# Altium schematic symbol library P10_ATMEGA328P.SchLib: 14 symbols
Pins are listed as number, name and electrical type; pins without a type are passive.

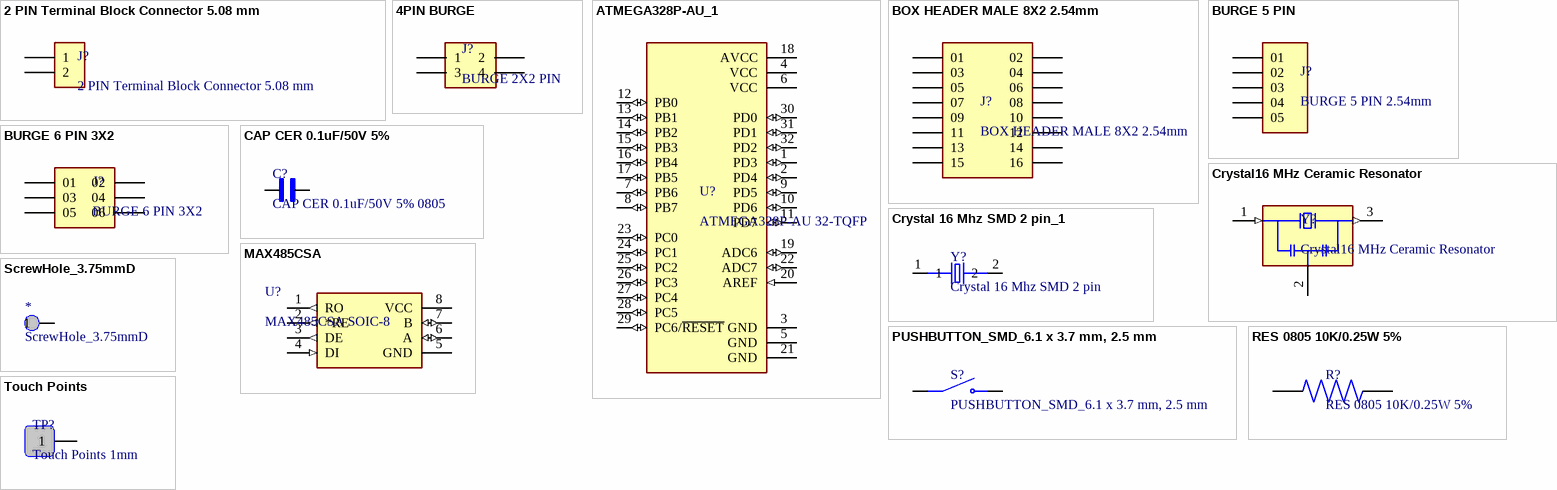
[diagram p0: symbols 2 PIN Terminal Block Connector 5.08 mm to Touch Points]

## 2 PIN Terminal Block Connector 5.08 mm
designator J?
MOLEX,Screw Type, Horizontal, 5.08 Pitch, 24~12 (AWG), Terminal Block Connector, TB007-508-02BE; MF: Same Sky; SnapEDA_Link: https://www.snapeda.com/parts/TB007-508-02BE/Same+Sky/view-part/?ref=snap; Package: None; Value: *; MP: TB007-508-02BE; Check_prices: https://www.snapeda.com/parts/TB007-508-02BE/Same+Sky/view-part/?ref=eda
footprint 2 PIN Terminal Block Connector 5.08 mm
pins: 1, 2

## 4PIN BURGE
designator J?, comment BURGE 2X2 PIN
Connector Header Through Hole 4 position 0.100 (2.54mm), 2X2 PIN; MF: Samtec; MP: MTLW-102-05-G-D-180; SnapEDA_Link: https://www.snapeda.com/parts/MTLW-102-05-G-D-180/Samtec/view-part/?ref=snap; Package: None; Value: *; Check_prices: https://www.snapeda.com/parts/MTLW-102-05-G-D-180/Samtec/view-part/?ref=eda
footprint BURGE 2X2 pin (Connector Header Through Hole 4 position 0.100 (2.54mm), 4X2 PIN)
pins: 01 1, 02 2, 03 3, 04 4

## ATMEGA328P-AU_1
designator U?, comment ATMEGA328P-AU 32-TQFP
AVR AVRÂ® ATmega Microcontroller IC 8-Bit 20MHz 32KB (16K x 16) FLASH 32-TQFP (7x7); MF: Microchip; SnapEDA_Link: https://www.snapeda.com/parts/ATMEGA328P-AU/Microchip/view-part/?ref=snap; Package: TQFP-32 Microchip; Value: *; MP: ATMEGA328P-AU; Check_prices: https://www.snapeda.com/parts/ATMEGA328P-AU/Microchip/view-part/?ref=eda
footprint ATMEGA328P-AU 32-TQFP (AVR AVRÂ® ATmega Microcontroller IC 8-Bit 20MHz 32KB (16K x 16) FLASH 32-TQFP (7x7)QFP80P900X900X120-32N)
pins: 1 PD3 (io), 2 PD4 (io), 3 GND (power), 4 VCC (power), 5 GND (power), 6 VCC (power), 7 PB6 (io), 8 PB7 (io), 9 PD5 (io), 10 PD6 (io), 11 PD7 (io), 12 PB0 (io), 13 PB1 (io), 14 PB2 (io), 15 PB3 (io), 16 PB4 (io), 17 PB5 (io), 18 AVCC (power), 19 ADC6 (io), 20 AREF (in), 21 GND (power), 22 ADC7 (io), 23 PC0 (io), 24 PC1 (io), 25 PC2 (io), 26 PC3 (io), 27 PC4 (io), 28 PC5 (io), 29 PC6/~{RESET} (io), 30 PD0 (io), 31 PD1 (io), 32 PD2 (io)

## BOX HEADER MALE 8X2 2.54mm
designator J?
BOX HEADER MALE 8X2 2.54mm 16 pin; MP: TSS-108-01-T-D; Availability: Unavailable; Value: *; Price: None; Package: None
footprint BOX HEADER MALE 8X2 2.54mm (BOX HEADER MALE 8X2 2.54mm 16 pin)
pins: 01, 02, 03, 04, 05, 06, 07, 08, 09, 10, 11, 12, 13, 14, 15, 16

## BURGE 5 PIN
designator J?, comment BURGE 5 PIN 2.54mm
MTSW-105-07-T-S-048 BURGE 5 PIN 2.54mm; MP: MTSW-105-07-T-S-048; Price: None; Package: None; Value: *; Availability: Unavailable
footprint BURGE 5 PIN (MTSW-105-07-T-S-048 BURGE 5 PIN 2.54mm)
pins: 01, 02, 03, 04, 05

## BURGE 6 PIN 3X2
designator J?
MTSW-103-X-X-D-X BURGE 6 PIN 3X2 2.54MM; MF: {'manufacturer': u'Samtec Inc.'}; Package: None; Price: None; Value: *; MP: MTSW-103-X-X-D-X; Availability: Unavailable
footprint BURGE 6 PIN 3X2 (MTSW-103-X-X-D-X BURGE 6 PIN 3X2 2.54MM)
pins: 01, 02, 03, 04, 05, 06

## CAP CER 0.1uF/50V 5%
designator C?, comment CAP CER 0.1uF/50V 5% 0805
CAP CER 0.1uF/50V  Ceramic Capacitor X7R 0805 (2012 Metric); MF: Samsung; MP: CL21B104KCFNNNE; Purchase-URL: https://pricing.snapeda.com/search?q=CL21B104KCFNNNE&ref=eda; Package: 0805 Samsung; Check_prices: https://www.snapeda.com/parts/CL21B104KCFNNNE/Samsung+Electro-Mechanics/view-part/?ref=eda; Value: *; SnapEDA_Link: https://www.snapeda.com/parts/CL21B104KCFNNNE/Samsung+Electro-Mechanics/view-part/?ref=snap; Digi-Key_Part_Number: 1276-6840-2-ND
footprint CAP CER 0.1uF/50V 5%
pins: 1, 2

## Crystal16 MHz Ceramic Resonator
designator Y?
16 MHz Ceramic Resonator Built in Capacitor 15 pF Â±0.3% -20Â°C ~ 80Â°C Surface Mount-CSTCE16M0V53-R0; MF: Murata; MP: CSTCE16M0V53-R0-; SnapEDA_Link: https://www.snapeda.com/parts/CSTCE16M0V53-R0-/Murata/view-part/?ref=snap; Package: None; Value: *; Check_prices: https://www.snapeda.com/parts/CSTCE16M0V53-R0-/Murata/view-part/?ref=eda
footprint Crystal16 MHz Ceramic Resonator (16 MHz Ceramic Resonator Built in Capacitor 15 pF Â±0.3% -20Â°C ~ 80Â°C Surface Mount-CSTCE16M0V53-R0)
pins: 1 IN (in), 2 GND (power), 3 OUT (out)

## Crystal 16 Mhz SMD 2 pin_1
designator Y?, comment Crystal 16 Mhz SMD 2 pin
16 MHz Â±30ppm Crystal 20pF 60 Ohms HC-49/US FOXSDLF/128-20 16 Mhz Crystal SMD –CSM-4ALX(28ALX) 12.5mmX4.85mmX4mm; MF: Fox Electronics; SnapEDA_Link: https://www.snapeda.com/parts/FOXSDLF/128-20/Fox+Electronics/view-part/?ref=snap; Package: HC49SD Fox Electronics; Value: *; MP: FOXSDLF/128-20; Check_prices: https://www.snapeda.com/parts/FOXSDLF/128-20/Fox+Electronics/view-part/?ref=eda
footprint Crystal 16 Mhz SMD 2 pin (16 MHz Â±30ppm Crystal 20pF 60 Ohms HC-49/US FOXSDLF/128-20 16 Mhz Crystal SMD –CSM-4ALX(28ALX) 12.5mmX4.85mmX4mm)
pins: 1, 2

## MAX485CSA
designator U?, comment MAX485CSA SOIC-8
MAX485CSA-RS-485/RS-422 Transceivers, SOIC-8; MF: Analog Devices; MP: MAX485CSA+; SnapEDA_Link: https://www.snapeda.com/parts/MAX485CSA+/Analog+Devices/view-part/?ref=snap; Package: SOIC-8 Maxim; Value: *; Check_prices: https://www.snapeda.com/parts/MAX485CSA+/Analog+Devices/view-part/?ref=eda
footprint MAX485CSA (MAX485CSA-RS-485/RS-422 Transceivers, SOIC-8)
pins: 1 RO (out), 2 *RE (out), 3 DE (out), 4 DI (in), 5 GND (power), 6 A (io), 7 B (io), 8 VCC (power)

## PUSHBUTTON_SMD_6.1 x 3.7 mm, 2.5 mm
designator S?
6.1 x 3.7 mm, 2.5 mm Actuator Height, 260 gf, Red, Surface Mount, SPST, Tactile Switch, TS09-63-25-R-260-SMT-TR; MF: Same Sky; SnapEDA_Link: https://www.snapeda.com/parts/TS09-63-25-R-260-SMT-TR/Same+Sky/view-part/?ref=snap; Package: None; Value: *; MP: TS09-63-25-R-260-SMT-TR; Check_prices: https://www.snapeda.com/parts/TS09-63-25-R-260-SMT-TR/Same+Sky/view-part/?ref=eda
footprint PUSHBUTTON_SMD_6.1 x 3.7 mm, 2.5 mm (6.1 x 3.7 mm, 2.5 mm Actuator Height, 260 gf, Red, Surface Mount, SPST, Tactile Switch, TS09-63-25-R-260-SMT-TR)
pins: 1, 2

## RES 0805 10K/0.25W 5%
designator R?
RESISTOR, THICK FILM, 10K, 5%, 0805, FRESISTOR, THICK FILM, 10K, 5%, 0805, FULL REEL Product Range:PANASONIC - ERJ Series; MP: ERJ-6GEYJ103V; MF: Panasonic Electronic; Price: None; Check_prices: https://www.snapeda.com/parts/ERJ-6GEYJ103V/Panasonic+Electronic+Components/view-part/?ref=eda; Package: 805-2 Panasonic; Purchase-URL: https://pricing.snapeda.com/search/part/ERJ-6GEYJ103V/?ref=eda; Availability: In Stock; SnapEDA_Link: https://www.snapeda.com/parts/ERJ-6GEYJ103V/Panasonic+Electronic+Components/view-part/?ref=snap; Value: *
footprint RES 0805 10K/0.25W 5% (RESISTOR, THICK FILM, 10K, 5%, 0805, FRESISTOR, THICK FILM, 10K, 5%, 0805, FULL REEL Product Range:PANASONIC - ERJ Series)
pins: 1, 2

## ScrewHole_3.75mmD
designator *
SCREW HEAD DIA 4.5MM, SREW LEG DIA 3 MM
footprint ScrewHole_3.75mmD - duplicate (SCREW HEAD DIA 4.5MM, SREW LEG DIA 3 MM)
pins: 1

## Touch Points
designator TP?, comment Touch Points 1mm
Touch Points 0.75mm to1mm
footprint Touch Points 1mm (Touch Points 0.75mm to1mm)
pins: 1